# EAGLE library part TLV62568PDDCR (library TLV62568PDDCR)
2.5V-5.5V input, 1A high efficiency step-down buck converter in SOT23 and SOT563 package Source: Datasheet <http://www.ti.com/lit/gpn/tlv62568>
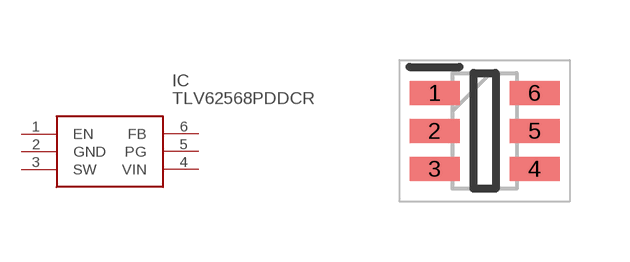
[diagram p0: symbol with the pads of SOT95P280X110-6N; footprint SOT95P280X110-6N]

Designator prefix IC

## TLV62568PDDCR (Description: 2.5V-5.5V input, 1A high efficiency step-down buck converter in SOT23 and SOT563 package; Height: 1.1mm; Manufacturer_Name: Texas Instruments; Manufacturer_Part_Number: TLV62568PDDCR; Mouser_Part_Number: 595-TLV62568PDDCR; Mouser_Price-Stock: https://www.mouser.co.uk/ProductDetail/Texas-Instruments/TLV62568PDDCR?qs=1mbolxNpo8f1FPchIXcxyQ%3D%3D)  [SOT95P280X110-6N]
1  EN
2  GND
3  SW
4  VIN
5  PG
6  FB

## Footprint SOT95P280X110-6N (pad centres in mm)
DDC (R-PDSO-G6)
smd 1.25 x 0.6: 1 -1.25,0.95; 2 -1.25,0; 3 -1.25,-0.95; 4 1.25,-0.95; 5 1.25,0; 6 1.25,0.95